# Altium schematic symbol library Misc.SchLib: 157 symbols (part 2 of 2)
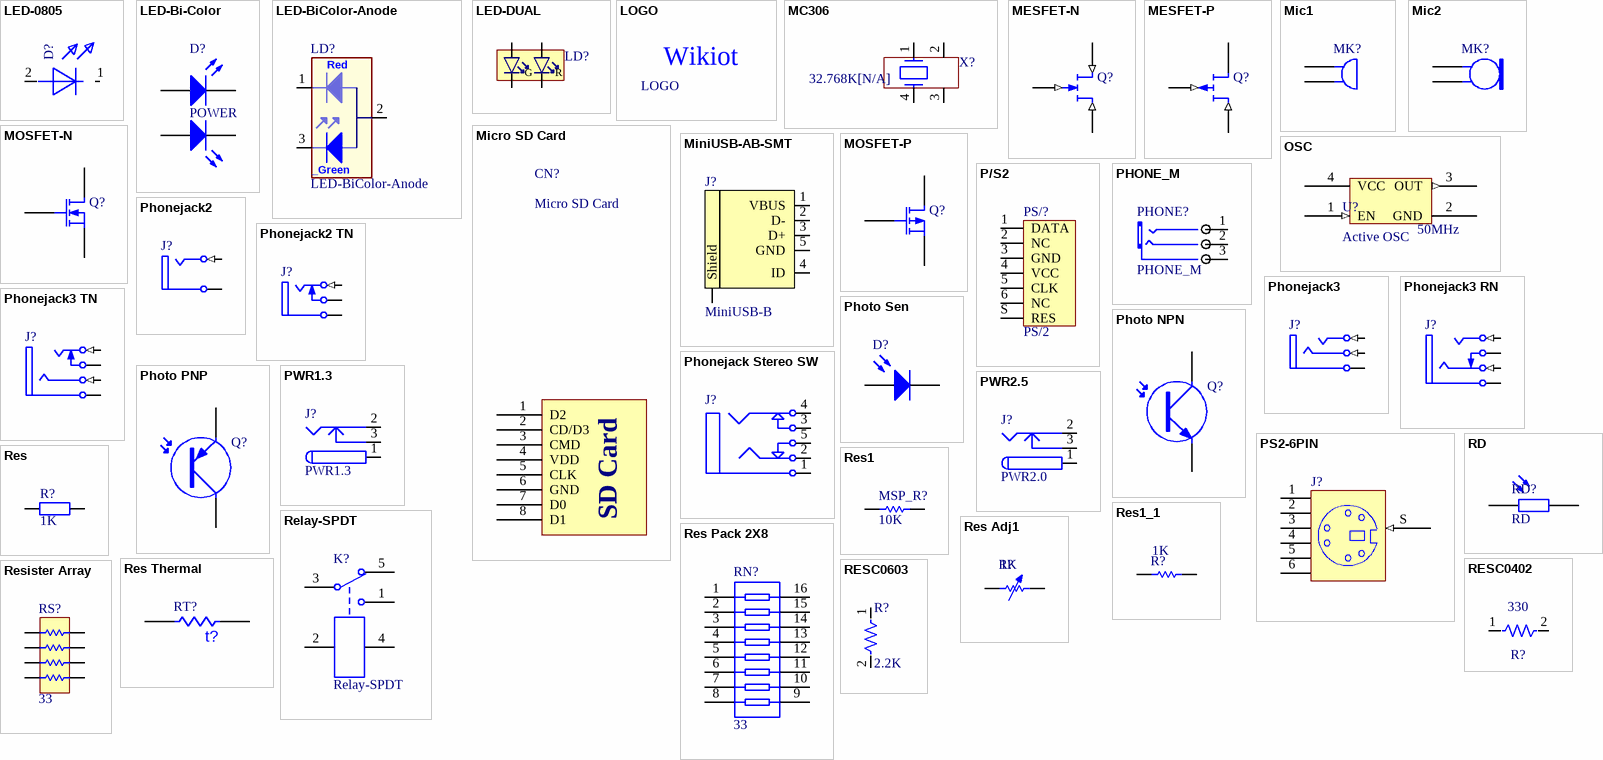
[diagram p4: symbols LED-0805 to Resister Array]

## RESC0402
designator R?  value 330  (hidden comment: RESC0402)
Resistor, 330 ohm, 1/10W, 5%, 0402; Manufacturer #1: Generic; Part Number: RC0402FR-07330RL; Also Known As: 0402; Geometry.Height: 0.35mm; PCBL.Component: CHP;RESC;1500;1700;150;400;700;950;600; PCBL.Process: F;N;50;50;200;100;200;250;350;-50;0; PCB DECAL: RESC0402N; GNUM: G11-R0402-3300-AAA; Tolerance: 5%
footprint 0402 (0402 from SM-752 data)
pins: 1, 2

## RESC0603
designator R?  value 2.2K  (hidden comment: RESC0603)
Resistor, 2.2K OHM 1/10W 5% 0603 SMD; Manufacturer #1: Generic; Part Number: CRCW06032K20JNEA; PCB DECAL: RESC0603N; GNUM: G11-R0603-R222-AAA; Also Known As: 0603; Geometry.Height: 0.6mm; PCBL.Component: CHP;RESC;1500;1700;150;400;700;950;600; PCBL.Process: F;N;50;50;200;100;200;250;350;-50;0; Tolerance: 5%
footprint 0603 (0603 from SM-752 data)
pins: 1, 2

## Resister Array
designator RS?, comment 33
footprint Model Name (Footprint not found)
footprint RES-4B
pins: 1, 2, 3, 4, 5, 6, 7, 8

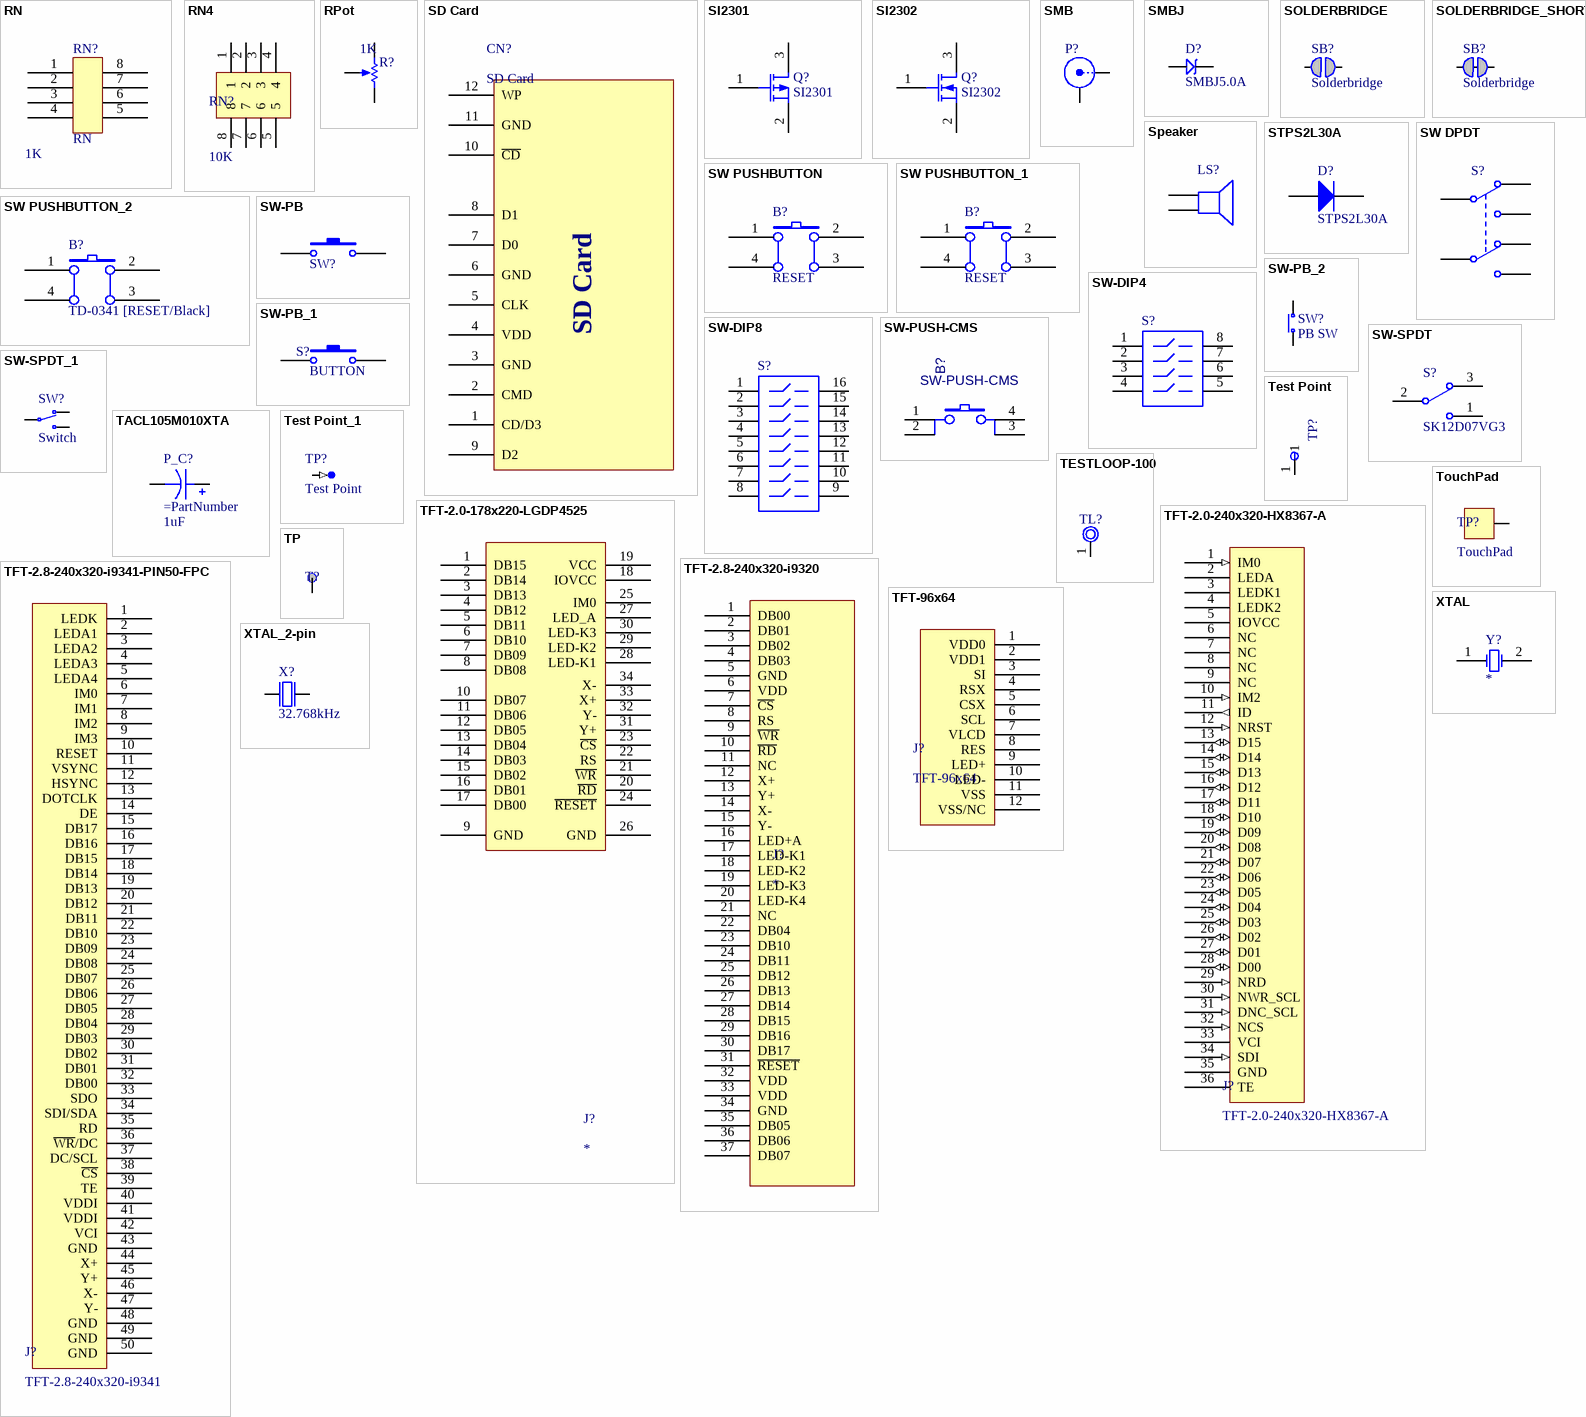
[diagram p3: symbols RN to XTAL_2-pin]

## RN
designator RN?  value 1K
footprint RN1X4/0603
pins: 1, 2, 3, 4, 5, 6, 7, 8

## RN4
designator RN?  value 10K  (hidden comment: RN4)
Res Network
pins: 1, 2, 3, 4, 5, 6, 7, 8

## RPot
designator R?  value 1K
Potentiometer; Sim Note: Enter the Resistance value and the set point into parameter fields.; Set Position: 0.5; Published: 8-Jun-2000; LatestRevisionDate: 17-Jul-2002; LatestRevisionNote: Re-released for DXP Platform.; PackageReference: VR5; Publisher: Altium Limited; PackageDescription: Variable Resistor, Thru-Hole; 3 Leads
footprint VR5 (Thru-Hole; 3 Leads)
simulation model POT (Potentiometer)
pins: 1 TOP, 2 BOT, 3 TAP
1 alternate drawing of the same symbol

## SD Card
designator CN?
SD Adapter
pins: 1 CD/D3, 2 CMD, 3 GND, 4 VDD, 5 CLK, 6 GND, 7 D0, 8 D1, 9 D2, 10 ~{CD}, 11 GND, 12 WP

## SI2301
designator Q?
P-Channel MOSFET; Published: 8-Jun-2000; LatestRevisionDate: 17-Jul-2002; LatestRevisionNote: Re-released for DXP Platform.; PackageVersion: 1995/1996; PackageReference: E3; Publisher: Altium Limited; PackageDescription: TO, Flat Index; 3 In-Line, Axial Leads; Body Dia. 4.6mm; Lead Dia. 0.5 mm (max)
simulation model PMOS (MOSFET-P)
footprint SOT23-3L(123) (SOT23, 3-Leads, Body 2.9x1.3mm, Pitch 0.95mm, Lead Span 2.5mm, IPC High Density)
pins: 1 G, 2 S, 3 D

## SI2302
designator Q?
N-Channel MOSFET; Published: 8-Jun-2000; LatestRevisionDate: 17-Jul-2002; LatestRevisionNote: Re-released for DXP Platform.; PackageVersion: 1995/1996; PackageReference: E3; Publisher: Altium Limited; PackageDescription: TO, Flat Index; 3 In-Line, Axial Leads; Body Dia. 4.6mm; Lead Dia. 0.5 mm (max)
simulation model PMOS (MOSFET-P)
footprint SOT23-3L(123) (SOT23, 3-Leads, Body 2.9x1.3mm, Pitch 0.95mm, Lead Span 2.5mm, IPC High Density)
pins: 1 G, 2 S, 3 D

## SMB
designator P?
SMB Straight Connector; LatestRevisionDate: 17-Jul-2002; LatestRevisionNote: Re-released for DXP Platform.; Publisher: Altium Limited
footprint SMB_V-RJ45 (Connector; SMB Straight)
signal-integrity model Connector
pins: 1 X, 2 Y

## SMBJ
designator D?, comment SMBJ5.0A
TVS
footprint SMBJ (3.9*5.6)
pins: 1, 2

## SOLDERBRIDGE
designator SB?, comment Solderbridge  (no BOM)
Artikkelnr Noca: N.A.; Part Number: Solderbridge; Manufacturer: *; Manufacturer Part Number: *; Datasheet: *; Footprint: Solderbridge; LatestRevisionDate: 2009-12-14; Pin Count: 2; Publisher: Nordic Semiconductor; Published: 2009-12-14; Value: Solderbridge; Note: *; Supplier: *; Supplier part number: *; 2nd source Supplier: *; 2nd source part number: *
footprint Solderbridge
pins: 1 0, 2 1

## SOLDERBRIDGE_SHORTED
designator SB?, comment Solderbridge  (net tie, no BOM)
Shorted Solderbridge; Part Number: Solderbridge Shorted; Artikkelnr Noca: N.A.; Manufacturer: *; Manufacturer Part Number: *; Datasheet: *; Footprint: Solderbridge_Shorted; LatestRevisionDate: 2012-08-07; Pin Count: 2; Publisher: Nordic Semiconductor; Published: 2012-08-07; Value: Solderbridge; Note: *; Supplier: *; Supplier part number: *; 2nd source Supplier: *; 2nd source part number: *
footprint Solderbridge_Shorted
pins: 1 0, 2 1

## Speaker
designator LS?
Loudspeaker; Published: 24-Mar-1999; LatestRevisionDate: 17-Jul-2002; LatestRevisionNote: Re-released for DXP Platform.; PackageReference: PIN2; Publisher: Altium Limited
footprint PIN2 (Loudspeaker; 2 Leads)
pins: 1, 2

## STPS2L30A
designator D?
Manuf_1: STM; Provided: ST; Order: BAT60JFILM; ECCN_US/EU: EAR99/NEC; Revision: July-2002: Re-released for DXP Platform.; Manuf_Part_1: BAT60JFILM; Distrib: ST
footprint SMA (Footprint not found)
pins: 1 A, 2 K

## SW DPDT
designator S?
Switch; Published: 24-Mar-1999; LatestRevisionDate: 29-May-2009; LatestRevisionNote: IPC-7351 Footprint Added.; PackageVersion: Mar-2001; PackageReference: SOT23-6; Publisher: Altium Limited; PackageDescription: 6-Pin SOT-23 Package 0.95 mm Pitch, 2.7 mm Lead Span; Code_JEITA: SC-74; Code_IPC: SOT26A-6
footprint SOT23-6_N (SOT23, 6-Leads, Body 2.9x1.6mm, Pitch 0.95mm, Lead Span 2.7mm, IPC Medium Density)
footprint SOT23-6_L (SOT23, 6-Leads, Body 2.9x1.6mm, Pitch 0.95mm, Lead Span 2.7mm, IPC High Density)
footprint SOT23-6_M (SOT23, 6-Leads, Body 2.9x1.6mm, Pitch 0.95mm, Lead Span 2.7mm, IPC Low Density)
pins: 1 COMMON1, 2 NC1, 3 NO1, 4 NC2, 5 COMMON2, 6 NO2

## SW PUSHBUTTON
designator B?, comment RESET
SE PUSHBUTTON
footprint PB (Footprint not found)
footprint PB10
pins: 1 A0, 2 B0, 3 B1, 4 A1

## SW PUSHBUTTON_1
designator B?, comment RESET
SE PUSHBUTTON
footprint PB (Footprint not found)
footprint PB10
pins: 1 A0, 2 B0, 3 B1, 4 A1

## SW PUSHBUTTON_2
designator B?, comment TD-0341 [RESET/Black]
SE PUSHBUTTON
footprint PB (Footprint not found)
footprint PB10
footprint BP1CMS
pins: 1 A0, 2 B0, 3 B1, 4 A1

## SW-DIP4
designator S?
DIP Switch; Published: 24-Mar-1999; LatestRevisionDate: 17-Jul-2002; LatestRevisionNote: Re-released for DXP Platform.; PackageReference: DIP-8; Publisher: Altium Limited
footprint DIP-8 (DIP; 8 Leads; Row Spacing 7.62 mm; Pitch 2.54 mm)
simulation model dpsw4 (Spice Subcircuit)
pins: 1, 2, 3, 4, 5, 6, 7, 8

## SW-DIP8
designator S?
4009 Series DIP Switch, Raised actuator; Published: 24-Mar-1999; LatestRevisionDate: 17-Dec-2003; LatestRevisionNote: PCB Footprint replaced.; PackageReference: DIP-16-KEY; Publisher: Altium Limited; PackageDescription: DIP; 16 Leads; Row Spacing 7.62 mm; Pitch 2.54 mm; ComponentLink1Description: Manufacturer Link; ComponentLink1URL: http://www.oupiin.com/prodindx.html#Headers
footprint DIP-16-KEY (DIP; 16 Leads; Row Spacing 7.62 mm; Pitch 2.54 mm)
simulation model dpsw8 (Spice Subcircuit)
pins: 1, 2, 3, 4, 5, 6, 7, 8, 9, 10, 11, 12, 13, 14, 15, 16

## SW-PB
designator SW?  (value not drawn)
SWITCH TACTILE SPST-NO 0.02A 15V; Manufacturer: Panasonic; Part Number: EVQ-21505R
footprint EVQPAE04M
footprint EVQ-21505R
pins: 1, 2

## SW-PB_1
designator S?, comment BUTTON
Switch; Published: 24-Mar-1999; LatestRevisionDate: 17-Jul-2002; LatestRevisionNote: Re-released for DXP Platform.; PackageReference: SPST-2; Publisher: Altium Limited
footprint KEY 5.4*3.2mm (5.4*3.2mm)
pins: 1, 2

## SW-PB_2
designator SW?, comment PB SW
ALPS - SKHUALE010 - Tactile Switch, SPNO, SMD, 6.5x6.2x2.5mm; Part Number: ALPS_SKHUALE010; 2nd source part number: 688-SKHUALE010; Artikkelnr Noca: 50019001; Manufacturer: Alps; Manufacturer Part Number: SKHUALE010; Datasheet: https://www1.elfa.se/data1/wwwroot/webroot/Z_DATA/03579000.pdf; Footprint: ALPS_SKHUxxx010_WO_GND; LatestRevisionDate: 2010-02-01; Pin Count: 4; Publisher: Nordic Semiconductor; Published: 2010-02-01; Value: PB SW; Note: *; Supplier: Elfa; Supplier part number: 35-790-00; 2nd source Supplier: Mouser
footprint ALPS_SKHUxxx010_WO_GND
pins: 1 N.O, 2 COM

## SW-PUSH-CMS
designator B?
Non-Open Push-Button 0.1A 24V; Manuf_Part_1: TD-0341; Ref St: ********; cap_dec: ---; Footprint: BP1CMS; Manuf_1: http://www.xiejia.net/
footprint KEY-4.5X4.5-SMD
pins: 1, 2, 3, 4

## SW-SPDT
designator S?, comment SK12D07VG3
SPDT Subminiature Toggle Switch, Right Angle Mounting, Vertical Actuation; Published: 24-Mar-1999; LatestRevisionDate: 17-Dec-2003; LatestRevisionNote: Schematic revised, PCB Footprint replaced.; DatasheetVersion: 05-Dec-2000; PackageReference: TL36WW15050; Publisher: Altium Limited; PackageDescription: Switch; 4 Leads; ComponentLink1Description: Manufacturer Link; ComponentLink1URL: http://www.apem.com
footprint SNPOWERSW5
footprint SK12D07VG3
pins: 1, 2, 3

## SW-SPDT_1
designator SW?, comment Switch
SMD slide Switch (ON-ON); Part Number: CJS-1200TA; Manufacturer: Copal Electronics Inc; Artikkelnr Noca: 50019068; Manufacturer Part Number: CJS-1200TA; Datasheet: http://media.digikey.com/pdf/Data%20Sheets/COPAL%20Electronics%20PDFs/CJS.pdf; Footprint: CJS-120xA; LatestRevisionDate: 2012-10-03; Pin Count: 3; Publisher: Nordic Semiconductor; Published: 2012-10-03; Value: Switch; Note: *; Supplier: Digi-Key; Supplier part number: 563-1021-2-ND; 2nd source Supplier: *; 2nd source part number: *
footprint CJS-120xA
pins: 1 N.C, 2 COM, 3 N.O

## TACL105M010XTA
designator P_C?  value 1uF
CAP, TANT, 1UF, 10V, 20%, 1608-10; Manufacturer: AVX; Part Number: TACL105M010XTA; CompType: Capacitor; SymbolCreator: x0199378; Alternate Manufacturer: -; Alternate PartNumber: -; ComponentLink1Description: Datasheet link; ComponentLink1URL: http://www.avx.com/docs/Catalogs/tac.pdf; MountType: SMT; PackageReference: 1608-10; RoHS: Y; SymbolVersion: 2014-05-22
footprint 0603 (0603 from SM-752 data)
pins: 1 +, 2 -

## Test Point
designator TP?  (value not drawn)
MFR: STD; PCB DECAL: TP_25MIL-SMT; ModifyDate: 07/31/2007 10:39:01
footprint TP
footprint TestPoint
pins: 1

## Test Point_1
designator TP?, comment Test Point
pins: 1 (in)

## TESTLOOP-100
designator TL?  (value not drawn)
Terminal, Test Point Miniature Loop, Red, T-Hole; Part Number: 5000; Manufacturer #1: Keystone Electronics; PCB DECAL: PAD70H39; GNUM: G20-K5000-TP00-AAA
footprint PAD70H39
pins: 1

## TFT-2.0-178x220-LGDP4525
designator J?
LGDP4525-178x220
footprint TFT2.0
pins: 1 DB15, 2 DB14, 3 DB13, 4 DB12, 5 DB11, 6 DB10, 7 DB09, 8 DB08, 9 GND, 10 DB07, 11 DB06, 12 DB05, 13 DB04, 14 DB03, 15 DB02, 16 DB01, 17 DB00, 18 IOVCC, 19 VCC, 20 ~{RD}, 21 ~{WR}, 22 RS, 23 ~{CS}, 24 ~{RESET}, 25 IM0, 26 GND, 27 LED_A, 28 LED-K1, 29 LED-K2, 30 LED-K3, 31 Y+, 32 Y-, 33 X+, 34 X-, 35 FMARK hidden, 36 NC hidden

## TFT-2.0-240x320-HX8367-A
designator J?
pins: 1 IM0 (in), 2 LEDA, 3 LEDK1, 4 LEDK2, 5 IOVCC (power), 6 NC, 7 NC, 8 NC, 9 NC, 10 IM2 (in), 11 ID (out), 12 NRST (in), 13 D15 (io), 14 D14 (io), 15 D13 (io), 16 D12 (io), 17 D11 (io), 18 D10 (io), 19 D09 (io), 20 D08 (io), 21 D07 (io), 22 D06 (io), 23 D05 (io), 24 D04 (io), 25 D03 (io), 26 D02 (io), 27 D01 (io), 28 D00 (io), 29 NRD (in), 30 NWR_SCL (in), 31 DNC_SCL (in), 32 NCS (in), 33 VCI (power), 34 SDI (in), 35 GND (power), 36 TE

## TFT-2.8-240x320-i9320
designator J?
i9320-240x320
footprint TFT-PIN37-0.5MM
pins: 1 DB00, 2 DB01, 3 DB02, 4 DB03, 5 GND, 6 VDD, 7 ~{CS}, 8 RS, 9 ~{WR}, 10 ~{RD}, 11 NC, 12 X+, 13 Y+, 14 X-, 15 Y-, 16 LED+A, 17 LED-K1, 18 LED-K2, 19 LED-K3, 20 LED-K4, 21 NC, 22 DB04, 23 DB10, 24 DB11, 25 DB12, 26 DB13, 27 DB14, 28 DB15, 29 DB16, 30 DB17, 31 ~{RESET}, 32 VDD, 33 VDD, 34 GND, 35 DB05, 36 DB06, 37 DB07

## TFT-2.8-240x320-i9341-PIN50-FPC
designator J?, comment TFT-2.8-240x320-i9341
footprint FPC-0.5-PIN50 (Footprint not found)
pins: 1 LEDK, 2 LEDA1, 3 LEDA2, 4 LEDA3, 5 LEDA4, 6 IM0, 7 IM1, 8 IM2, 9 IM3, 10 RESET, 11 VSYNC, 12 HSYNC, 13 DOTCLK, 14 DE, 15 DB17, 16 DB16, 17 DB15, 18 DB14, 19 DB13, 20 DB12, 21 DB11, 22 DB10, 23 DB09, 24 DB08, 25 DB07, 26 DB06, 27 DB05, 28 DB04, 29 DB03, 30 DB02, 31 DB01, 32 DB00, 33 SDO, 34 SDI/SDA, 35 RD, 36 ~{WR}/DC, 37 DC/SCL, 38 ~{CS}, 39 TE, 40 VDDI, 41 VDDI, 42 VCI, 43 GND, 44 X+, 45 Y+, 46 X-, 47 Y-, 48 GND, 49 GND, 50 GND

## TFT-96x64
designator J?
footprint TFT-PIN12-0.5
pins: 1 VDD0, 2 VDD1, 3 SI, 4 RSX, 5 CSX, 6 SCL, 7 VLCD, 8 RES, 9 LED+, 10 LED-, 11 VSS, 12 VSS/NC

## TouchPad
designator TP?
PCB TouchPad
footprint TouchPad (PCB TouchPad)
pins: 1 TouchPad (power)

## TP
designator T?  (value not drawn)
Test Point
footprint TP (TEST POINT)
pins: 1

## XTAL
designator Y?
Crystal 49S/49SMD/HOLE; Published: 8-Jun-2000; LatestRevisionDate: 17-Jul-2002; LatestRevisionNote: Re-released for DXP Platform.; PackageReference: R38; Publisher: Altium Limited
simulation model XTAL (Spice Subcircuit)
footprint XTAL1
footprint XTAL0602
footprint XTAL0803
footprint XTAL_5X7
pins: 1 OSC1, 2 OSC2

## XTAL_2-pin
designator X?, comment 32.768kHz
EPSON TOYOCOM - FC-135 32.768KHZ ±20PPM,9.0PF - CRYSTAL, SM, WATCH; Part Number: XTAL_FC-135 32.768k; 2nd source part number: 127-8037; Note: XTAL SMD 32.768kHz, 3215; Artikkelnr Noca: 22019091; Manufacturer: Epson Toyocom; Manufacturer Part Number: FC-135 32.768KHZ ±20PPM,9.0PF; Datasheet: http://www.farnell.com/datasheets/57480.pdf; Footprint: FC-135; LatestRevisionDate: 2010-10-18; Pin Count: 2; Publisher: Nordic Semiconductor; Published: 2010-10-18; Value: 32.768kHz; Supplier: Digi-Key; Supplier part number: FC-135 32.7680KA-AC-ND; 2nd source Supplier: Farnell
footprint FC-135
pins: 1 inp, 2 out